# EAGLE library part CON_02X04 (library PP_Connectors)
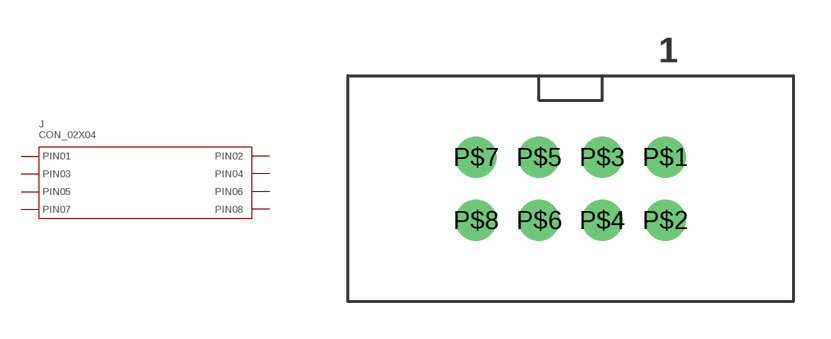
[diagram p28: symbol with the pads of 61200821621; footprint 61200821621]

Designator prefix J

## CON_02X04_61200821621  [61200821621]
P$1  PIN1
P$2  PIN2
P$3  PIN3
P$4  PIN4
P$5  PIN5
P$6  PIN6
P$7  PIN7
P$8  PIN8

## Footprint 61200821621 (pad centres in mm)
drill 1.1: P$1 3.81,1.27; P$2 3.81,-1.27; P$3 1.27,1.27; P$4 1.27,-1.27; P$5 -1.27,1.27; P$6 -1.27,-1.27; P$7 -3.81,1.27; P$8 -3.81,-1.27